# Altium schematic symbol library Passives.SchLib: 5 symbols
Pins are listed as number, name and electrical type; pins without a type are passive.

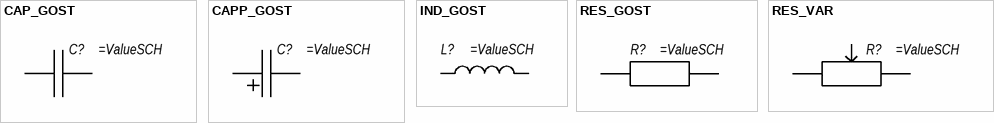
[diagram p0: symbols CAP_GOST to RES_VAR]

## CAP_GOST
designator C?
CAPACITOR GOST
pins: 1, 2

## CAPP_GOST
designator C?
CAPACITOR POLARITY GOST
pins: 1, 2

## IND_GOST
designator L?
pins: 1, 2

## RES_GOST
designator R?
RESISTOR GOST
pins: 1, 2

## RES_VAR
designator R?
Trimmer THD 10K 200mW Single-turn; Manufacturer 1: Bourns Inc.; Manufacturer Part Number 1: 3306F-1-103; Tolerance: ±25%; Ratings: 1/5W; SCDType: spec; Supplier 1: Digi-Key; Supplier Part Number 1: 3306F-103-ND; Material: Cermet; Package / Case: 8.10mm L x 6.81mm W x 7.62mm H
footprint POT_3306F
pins: CCW 1, CW 3, W 2